# Altium schematic symbol library Audio.SchLib: 96 symbols (part 2 of 2)
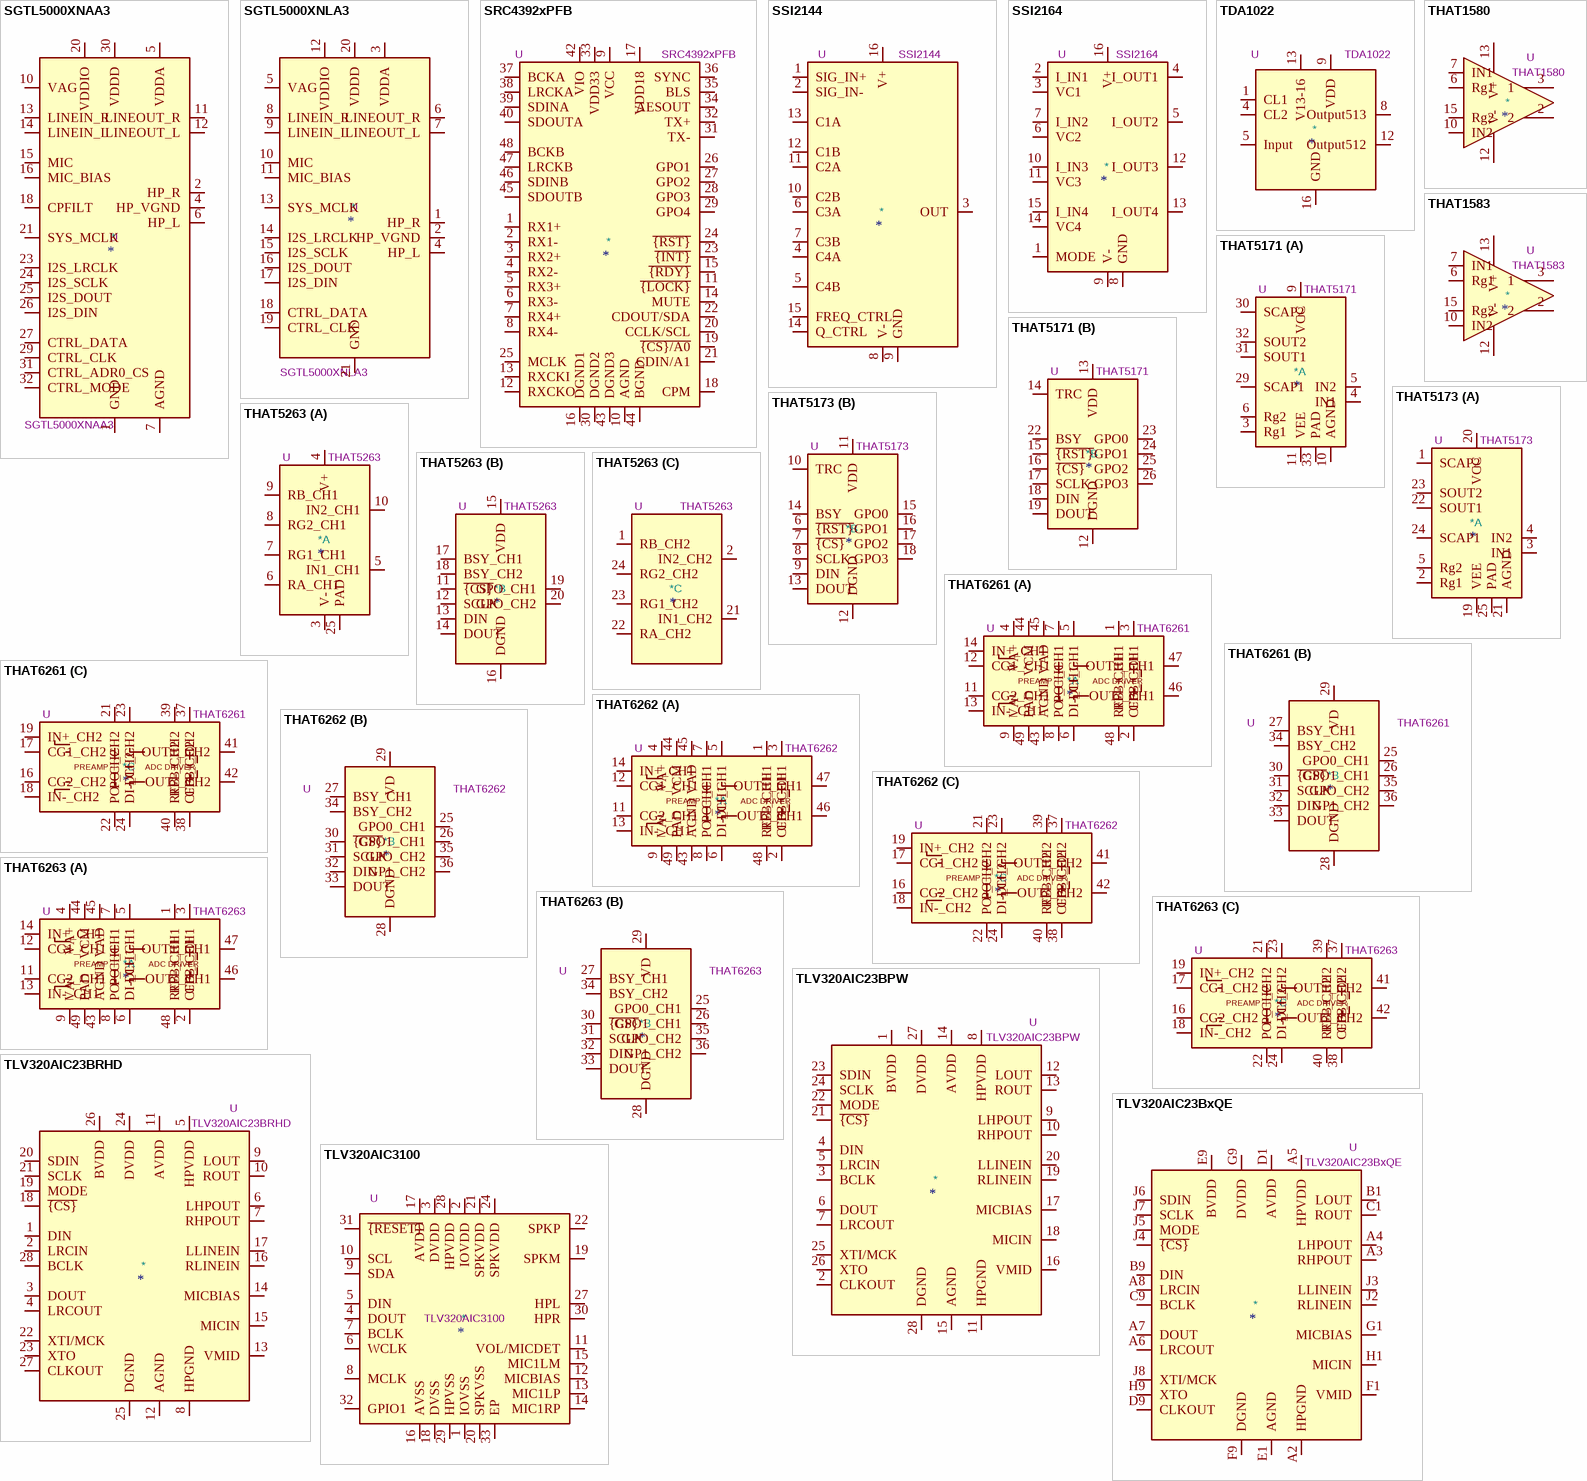
[diagram p5: symbols SGTL5000XNAA3 to TLV320AIC3100]

## THAT6263
designator *  value THAT6263  Reference: U
ki_keywords: dual mic preamp; ki_description: 2-Channel Low-Noise Programmable-Gain Preamplifier - ADC Driver IC, 3dB Step, QFN-48; ki_fp_filters: QFN*1EP*7x7mm*P0.5mm*; Footprint: Package_DFN_QFN:QFN-48-1EP_7x7mm_P0.5mm_EP5.45x5.45mm; Datasheet: http://www.thatcorp.com/datashts/THAT_626x_Datasheet.pdf
part A pins: 1 RFB+_CH1, 2 CFB-_CH1, 3 CFB+_CH1, 4 VA+, 5 DI+_CH1, 6 DI-_CH1, 7 PO+_CH1, 8 PO-_CH1, 9 VA-, 10 VA+ hidden, 11 CG2_CH1, 12 CG1_CH1, 13 IN-_CH1, 14 IN+_CH1, 15 VA- hidden, 20 VA- hidden, 43 AGND, 44 VCM, 45 VAD, 46 OUT-_CH1, 47 OUT+_CH1, 48 RFB-_CH1, 49 PAD
part B pins: 25 GPO0_CH1, 26 GPO1_CH1, 27 BSY_CH1, 28 DGND, 29 VD, 30 ~{{CS}}, 31 SCLK, 32 DIN, 33 DOUT, 34 BSY_CH2, 35 GPO_CH2, 36 GP1_CH2
part C pins: 16 CG2_CH2, 17 CG1_CH2, 18 IN-_CH2, 19 IN+_CH2, 21 PO+_CH2, 22 PO-_CH2, 23 DI+_CH2, 24 DI-_CH2, 37 CFB+_CH2, 38 CFB-_CH2, 39 RFB+_CH2, 40 RFB-_CH2, 41 OUT+_CH2, 42 OUT-_CH2
part A text: PREAMP; ADC DRIVER
part C text: PREAMP; ADC DRIVER

## TLV320AIC23BPW
designator *  value TLV320AIC23BPW  Reference: U
ki_keywords: audio codec 2ch 96kHz headphone amplifier; ki_description: Stero Audio CODEC, 8- to 96-kHz, With Integrated Headphone Amplifier, TSSOP-28; ki_fp_filters: TSSOP*4.4x9.7mm*P0.65mm*; Footprint: Package_SO:TSSOP-28_4.4x9.7mm_P0.65mm; Datasheet: http://www.ti.com/lit/ds/symlink/tlv320aic23b.pdf
pins: 1 BVDD, 2 CLKOUT, 3 BCLK, 4 DIN, 5 LRCIN, 6 DOUT, 7 LRCOUT, 8 HPVDD, 9 LHPOUT, 10 RHPOUT, 11 HPGND, 12 LOUT, 13 ROUT, 14 AVDD, 15 AGND, 16 VMID, 17 MICBIAS, 18 MICIN, 19 RLINEIN, 20 LLINEIN, 21 ~{{CS}}, 22 MODE, 23 SDIN, 24 SCLK, 25 XTI/MCK, 26 XTO, 27 DVDD, 28 DGND

## TLV320AIC23BRHD
designator *  value TLV320AIC23BRHD  Reference: U
ki_keywords: audio codec 2ch 96kHz headphone amplifier; ki_description: Stero Audio CODEC, 8- to 96-kHz, With Integrated Headphone Amplifier, QFN-28; ki_fp_filters: QFN*5x5mm*P0.5mm*; Footprint: Package_DFN_QFN:QFN-28-1EP_5x5mm_P0.5mm_EP3.35x3.35mm; Datasheet: http://www.ti.com/lit/ds/symlink/tlv320aic23b.pdf
pins: 1 DIN, 2 LRCIN, 3 DOUT, 4 LRCOUT, 5 HPVDD, 6 LHPOUT, 7 RHPOUT, 8 HPGND, 9 LOUT, 10 ROUT, 11 AVDD, 12 AGND, 13 VMID, 14 MICBIAS, 15 MICIN, 16 RLINEIN, 17 LLINEIN, 18 ~{{CS}}, 19 MODE, 20 SDIN, 21 SCLK, 22 XTI/MCK, 23 XTO, 24 DVDD, 25 DGND, 26 BVDD, 27 CLKOUT, 28 BCLK, 29 AGND hidden

## TLV320AIC23BxQE
designator *  value TLV320AIC23BxQE  Reference: U
ki_keywords: audio codec 2ch 96kHz headphone amplifier; ki_description: Stero Audio CODEC, 8- to 96-kHz, With Integrated Headphone Amplifier, BGA-32; ki_fp_filters: *MicroStar*Junior*BGA*5*x5*mm*P0.5mm*; Footprint: Package_BGA:Texas_MicroStar_Junior_BGA-80_5.0x5.0mm_Layout9x9_P0.5mm; Datasheet: http://www.ti.com/lit/ds/symlink/tlv320aic23b.pdf
pins: A1 NC hidden, A2 HPGND, A3 RHPOUT, A4 LHPOUT, A5 HPVDD, A6 LRCOUT, A7 DOUT, A8 LRCIN, A9 NC hidden, B1 LOUT, B2 NC hidden, B3 NC hidden, B4 NC hidden, B5 NC hidden, B6 NC hidden, B7 NC hidden, B8 NC hidden, B9 DIN, C1 ROUT, C2 NC hidden, C4 NC hidden, C5 NC hidden, C6 NC hidden, C7 NC hidden, C8 NC hidden, C9 BCLK, D1 AVDD, D2 NC hidden, D3 NC hidden, D4 NC hidden, D5 NC hidden, D6 NC hidden, D7 NC hidden, D8 NC hidden, D9 CLKOUT, E1 AGND, E2 NC hidden, E3 NC hidden, E4 NC hidden, E5 NC hidden, E6 NC hidden, E7 NC hidden, E8 NC hidden, E9 BVDD, F1 VMID, F2 NC hidden, F3 NC hidden, F4 NC hidden, F5 NC hidden, F6 NC hidden, F7 NC hidden, F8 NC hidden, F9 DGND, G1 MICBIAS, G2 NC hidden, G3 NC hidden, G4 NC hidden, G5 NC hidden, G6 NC hidden, G7 NC hidden, G8 NC hidden, G9 DVDD, H1 MICIN, H2 NC hidden, H3 NC hidden, H4 NC hidden, H5 NC hidden, H6 NC hidden, H7 NC hidden, H8 NC hidden, H9 XTO, J1 NC hidden, J2 RLINEIN, J3 LLINEIN, J4 ~{{CS}}, J5 MODE, J6 SDIN, J7 SCLK, J8 XTI/MCK, J9 NC hidden

## TLV320AIC3100
designator *  value TLV320AIC3100  Reference: U
ki_keywords: audio codec 2ch 192kHz class-d amplifier; ki_description: Low Power Audio Codec with Audio Processing and Mono Class‑D Amplifier, VQFN-32; ki_fp_filters: VQFN*1EP*5x5mm*P0.5mm*; Footprint: Package_DFN_QFN:VQFN-32-1EP_5x5mm_P0.5mm_EP3.5x3.5mm; Datasheet: http://www.ti.com/lit/ds/symlink/tlv320aic3100.pdf
pins: 1 IOVSS, 2 IOVDD, 3 DVDD, 4 DOUT, 5 DIN, 6 WCLK, 7 BCLK, 8 MCLK, 9 SDA, 10 SCL, 11 VOL/MICDET, 12 MICBIAS, 13 MIC1LP, 14 MIC1RP, 15 MIC1LM, 16 AVSS, 17 AVDD, 18 DVSS, 19 SPKM, 20 SPKVSS, 21 SPKVDD, 22 SPKP, 23 SPKM hidden, 24 SPKVDD, 25 SPKVSS hidden, 26 SPKP hidden, 27 HPL, 28 HPVDD, 29 HPVSS, 30 HPR, 31 ~{{RESET}}, 32 GPIO1, 33 EP

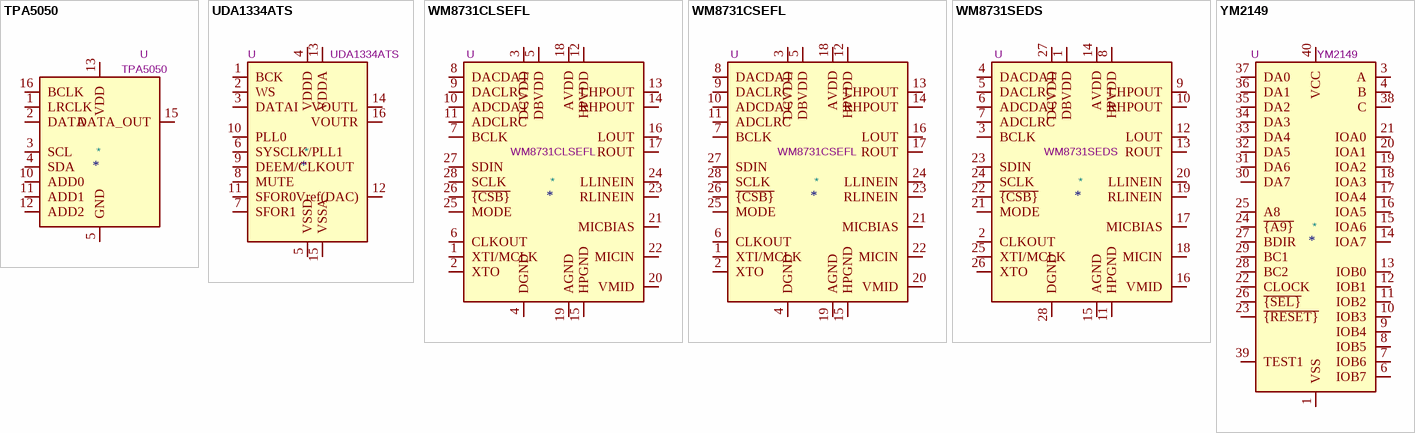
[diagram p4: symbols TPA5050 to YM2149]

## TPA5050
designator *  value TPA5050  Reference: U
ki_keywords: audio delay; ki_description: Stereo Digital Audio Lip-Sync Delay Processor With I2C Control, QFN-16; ki_fp_filters: Texas?S?PVQFN?N*; Footprint: Package_DFN_QFN:Texas_S-PVQFN-N16_EP2.7x2.7mm_ThermalVias; Datasheet: http://www.ti.com/lit/ds/symlink/tpa5050.pdf
pins: 1 LRCLK, 2 DATA, 3 SCL, 4 SDA, 5 GND, 6 GND hidden, 7 GND hidden, 8 GND hidden, 9 GND hidden, 10 ADD0, 11 ADD1, 12 ADD2, 13 VDD, 14 GND hidden, 15 DATA_OUT, 16 BCLK, 17 GND hidden

## UDA1334ATS
designator *  value UDA1334ATS  Reference: U
ki_keywords: audio dac 2ch 24bit 96kHz; ki_description: Low Power Audio DAC with PLL, SSOP-16; ki_fp_filters: SSOP*4.4x5.2mm*P0.65mm*; Footprint: Package_SO:SSOP-16_4.4x5.2mm_P0.65mm; Datasheet: http://www.nxp.com/docs/en/data-sheet/UDA1334ATS.pdf
pins: 1 BCK, 2 WS, 3 DATAI, 4 VDDD, 5 VSSD, 6 SYSCLK/PLL1, 7 SFOR1, 8 MUTE, 9 DEEM/CLKOUT, 10 PLL0, 11 SFOR0, 12 Vref(DAC), 13 VDDA, 14 VOUTL, 15 VSSA, 16 VOUTR

## WM8731CLSEFL
designator *  value WM8731CLSEFL  Reference: U
ki_keywords: wolfson stereo audio codec adc dac headphone; ki_description: Portable Internet Audio CODEC with Headphone Driver and Programmable Sample Rates, QFN-28; ki_fp_filters: QFN*1EP*5x5mm*P0.5mm*; Footprint: Package_DFN_QFN:QFN-28-1EP_5x5mm_P0.5mm_EP3.35x3.35mm; Datasheet: https://statics.cirrus.com/pubs/proDatasheet/WM8731_v4.9.pdf
pins: 1 XTI/MCLK, 2 XTO, 3 DCVDD, 4 DGND, 5 DBVDD, 6 CLKOUT, 7 BCLK, 8 DACDAT, 9 DACLRC, 10 ADCDAT, 11 ADCLRC, 12 HPVDD, 13 LHPOUT, 14 RHPOUT, 15 HPGND, 16 LOUT, 17 ROUT, 18 AVDD, 19 AGND, 20 VMID, 21 MICBIAS, 22 MICIN, 23 RLINEIN, 24 LLINEIN, 25 MODE, 26 ~{{CSB}}, 27 SDIN, 28 SCLK, 29 AGND hidden

## WM8731CSEFL
designator *  value WM8731CSEFL  Reference: U
ki_keywords: wolfson stereo audio codec adc dac headphone; ki_description: Portable Internet Audio CODEC with Headphone Driver and Programmable Sample Rates, QFN-28; ki_fp_filters: QFN*1EP*5x5mm*P0.5mm*; Footprint: Package_DFN_QFN:QFN-28-1EP_5x5mm_P0.5mm_EP3.35x3.35mm; Datasheet: https://statics.cirrus.com/pubs/proDatasheet/WM8731_v4.9.pdf
pins: 1 XTI/MCLK, 2 XTO, 3 DCVDD, 4 DGND, 5 DBVDD, 6 CLKOUT, 7 BCLK, 8 DACDAT, 9 DACLRC, 10 ADCDAT, 11 ADCLRC, 12 HPVDD, 13 LHPOUT, 14 RHPOUT, 15 HPGND, 16 LOUT, 17 ROUT, 18 AVDD, 19 AGND, 20 VMID, 21 MICBIAS, 22 MICIN, 23 RLINEIN, 24 LLINEIN, 25 MODE, 26 ~{{CSB}}, 27 SDIN, 28 SCLK, 29 AGND hidden

## WM8731SEDS
designator *  value WM8731SEDS  Reference: U
ki_keywords: wolfson stereo audio codec adc dac headphone; ki_description: Portable Internet Audio CODEC with Headphone Driver and Programmable Sample Rates, SSOP-28; ki_fp_filters: SSOP*5.3x10.2mm*P0.65mm*; Footprint: Package_SO:SSOP-28_5.3x10.2mm_P0.65mm; Datasheet: https://statics.cirrus.com/pubs/proDatasheet/WM8731_v4.9.pdf
pins: 1 DBVDD, 2 CLKOUT, 3 BCLK, 4 DACDAT, 5 DACLRC, 6 ADCDAT, 7 ADCLRC, 8 HPVDD, 9 LHPOUT, 10 RHPOUT, 11 HPGND, 12 LOUT, 13 ROUT, 14 AVDD, 15 AGND, 16 VMID, 17 MICBIAS, 18 MICIN, 19 RLINEIN, 20 LLINEIN, 21 MODE, 22 ~{{CSB}}, 23 SDIN, 24 SCLK, 25 XTI/MCLK, 26 XTO, 27 DCVDD, 28 DGND

## YM2149
designator *  value YM2149  Reference: U
ki_keywords: audio ssg 3ch; ki_description: Software-Controlled Sound Generator, DIP-40; ki_fp_filters: DIP*W15.24mm*; Footprint: Package_DIP:DIP-40_W15.24mm; Datasheet: http://www.ym2149.com/ym2149.pdf
pins: 1 VSS, 2 NC hidden, 3 A, 4 B, 5 NC hidden, 6 IOB7, 7 IOB6, 8 IOB5, 9 IOB4, 10 IOB3, 11 IOB2, 12 IOB1, 13 IOB0, 14 IOA7, 15 IOA6, 16 IOA5, 17 IOA4, 18 IOA3, 19 IOA2, 20 IOA1, 21 IOA0, 22 CLOCK, 23 ~{{RESET}}, 24 ~{{A9}}, 25 A8, 26 ~{{SEL}}, 27 BDIR, 28 BC2, 29 BC1, 30 DA7, 31 DA6, 32 DA5, 33 DA4, 34 DA3, 35 DA2, 36 DA1, 37 DA0, 38 C, 39 TEST1, 40 VCC